# EAGLE library part LT1933 (library v-reg-3)
LT1933 - 600mA, 500kHz Step-Down Switching Regulator in SOT-23 Wide Input Range: 3.6V to 36V 5V at 600mA from 16V to 36V Input 3.3V at 600mA from 12V to 36V Input 5V at 500mA from 6.3V to 36V Input 3.3V at 500mA from 4.5V to 36V Input Fixed Frequency 500kHz Operation Uses Tiny Capacitors and Inductors Soft-Start Internally Compensated Low Shutdown Current: <2µA Output Adjustable Down to 1.25V Low Profile (1mm) SOT-23 (ThinSOT™) and (2mm x 3mm x 0.75mm) 6-Pin DFN Packages
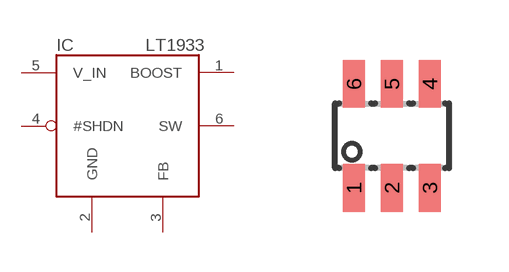
[diagram p11: symbol with the pads of SOT23-6; footprint SOT23-6]

Designator prefix IC

## LT1933ES6  [SOT23-6]
1  BOOST  pas
2  GND  pwr
3  FB  pas
4  #SHDN  pas
5  V_IN  pas
6  SW  pas

## Footprint SOT23-6 (pad centres in mm)
smd 0.55 x 1.2: 1 -0.95,-1.3; 2 0,-1.3; 3 0.95,-1.3; 4 0.95,1.3; 5 0,1.3; 6 -0.95,1.3